# Altium footprint library 7-5530843-7 PLUG.PcbLib: 1 footprints
Each footprint in its own frame and in the unit in brackets; x right, y up, seen from the top. Pads: shape width x height; smd on the part's side, far side on the other; paste and mask are expansions set on the pad; w line width, h text height; cw(c..) or ccw(c..) is an arc to the next point about the centre after c.
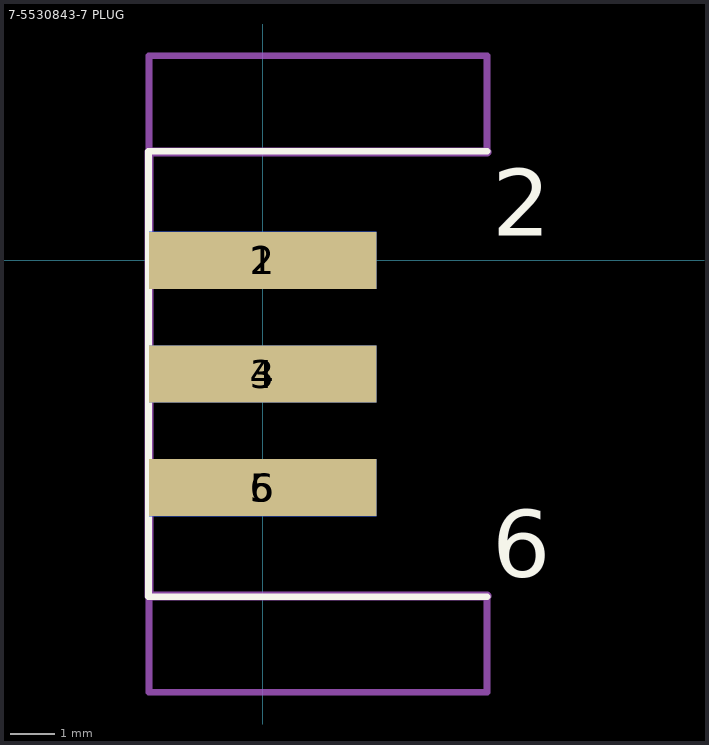
[diagram p0: the footprint, top view; thin cyan lines are the x and y axes]

## 7-5530843-7 PLUG [mil]
pads (6):
  rect 200x50 smd far side mask+2.76: 1(0,0) 3(0,-100) 5(0,-200)
  rect 200x50 smd mask+2.76: 2(0,0) 4(0,-100) 6(0,-200)
Top Overlay:
  lines w5.91: 197.5,-296.06 -100.39,-296.06 -100.39,96.06 197.5,96.06
  text "2" at 202.13,21.65 h59.06
  text "6" at 202.13,-278.35 h59.06
Bottom Overlay:
  lines w5.91: 200,-295 -100.39,-296.06 -100.39,96.06 200,95
  text "1" at 229.69,21.65 h59.06
  text "5" at 249.36,-286.22 h59.06
Mechanical 13:
  lines w5.91: -100.39,-296.46 100.39,-296.46 ; -100.39,96.46 100.39,96.46
Mechanical 15:
  lines w5.91: -100,-295.47 -100,-380.01 104,-380.01 197.5,-380.01 197.5,-295.47 ; -100,95.47 -100,180.01 104,180.01 197.5,180.01 197.5,95.47
  lines w7.87: -100,-295.47 -100,95.47 197.5,95.47 ; -99.41,-295.47 197.5,-295.47
3D body "c-7-5530843-7-f-3d.stp": height 184, standoff -189, extent -537.5,-570 197.5,180